# EAGLE library part MCP6004-E/P (library MCP6004-E_P)
1 MHz, Low-Power Op Amp Check availability <https://pricing.snapeda.com/parts/MCP6004-E/P/Microchip%20Technology/view-part?ref=eda>
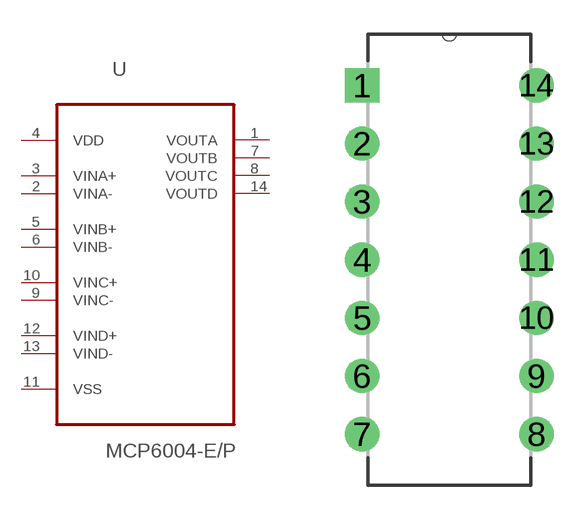
[diagram p0: symbol with the pads of DIP254P762X533-14; footprint DIP254P762X533-14]

Designator prefix -

## MCP6004-E/P (Availability: In Stock; Description: Op Amp Quad Low Power Amplifier R-R I/O 6V Automotive 14-Pin PDIP Tube; MF: Microchip Technology; MP: MCP6004-E/P; Package: DIP-14 Microchip; Price: None; Purchase-URL: https://pricing.snapeda.com/search/part/MCP6004-E/P/?ref=eda)  [DIP254P762X533-14]
1  VOUTA  out
2  VINA-  in
3  VINA+  in
4  VDD  pwr
5  VINB+  in
6  VINB-  in
7  VOUTB  out
8  VOUTC  out
9  VINC-  in
10  VINC+  in
11  VSS  pwr
12  VIND+  in
13  VIND-  in
14  VOUTD  out

## Footprint DIP254P762X533-14 (pad centres in mm)
drill 0.991 square: 1 -7.62,15.24
drill 0.991: 2 -7.62,12.7; 3 -7.62,10.16; 4 -7.62,7.62; 5 -7.62,5.08; 6 -7.62,2.54; 7 -7.62,0; 8 0,0; 9 0,2.54; 10 0,5.08; 11 0,7.62; 12 0,10.16; 13 0,12.7; 14 0,15.24